# Altium footprint library CeleronLib_Connect.PcbLib: 219 footprints (part 2 of 14)
Each footprint in its own frame and in the unit in brackets; x right, y up, seen from the top. Pads: shape width x height; smd on the part's side, far side on the other; paste and mask are expansions set on the pad; w line width, h text height; cw(c..) or ccw(c..) is an arc to the next point about the centre after c.
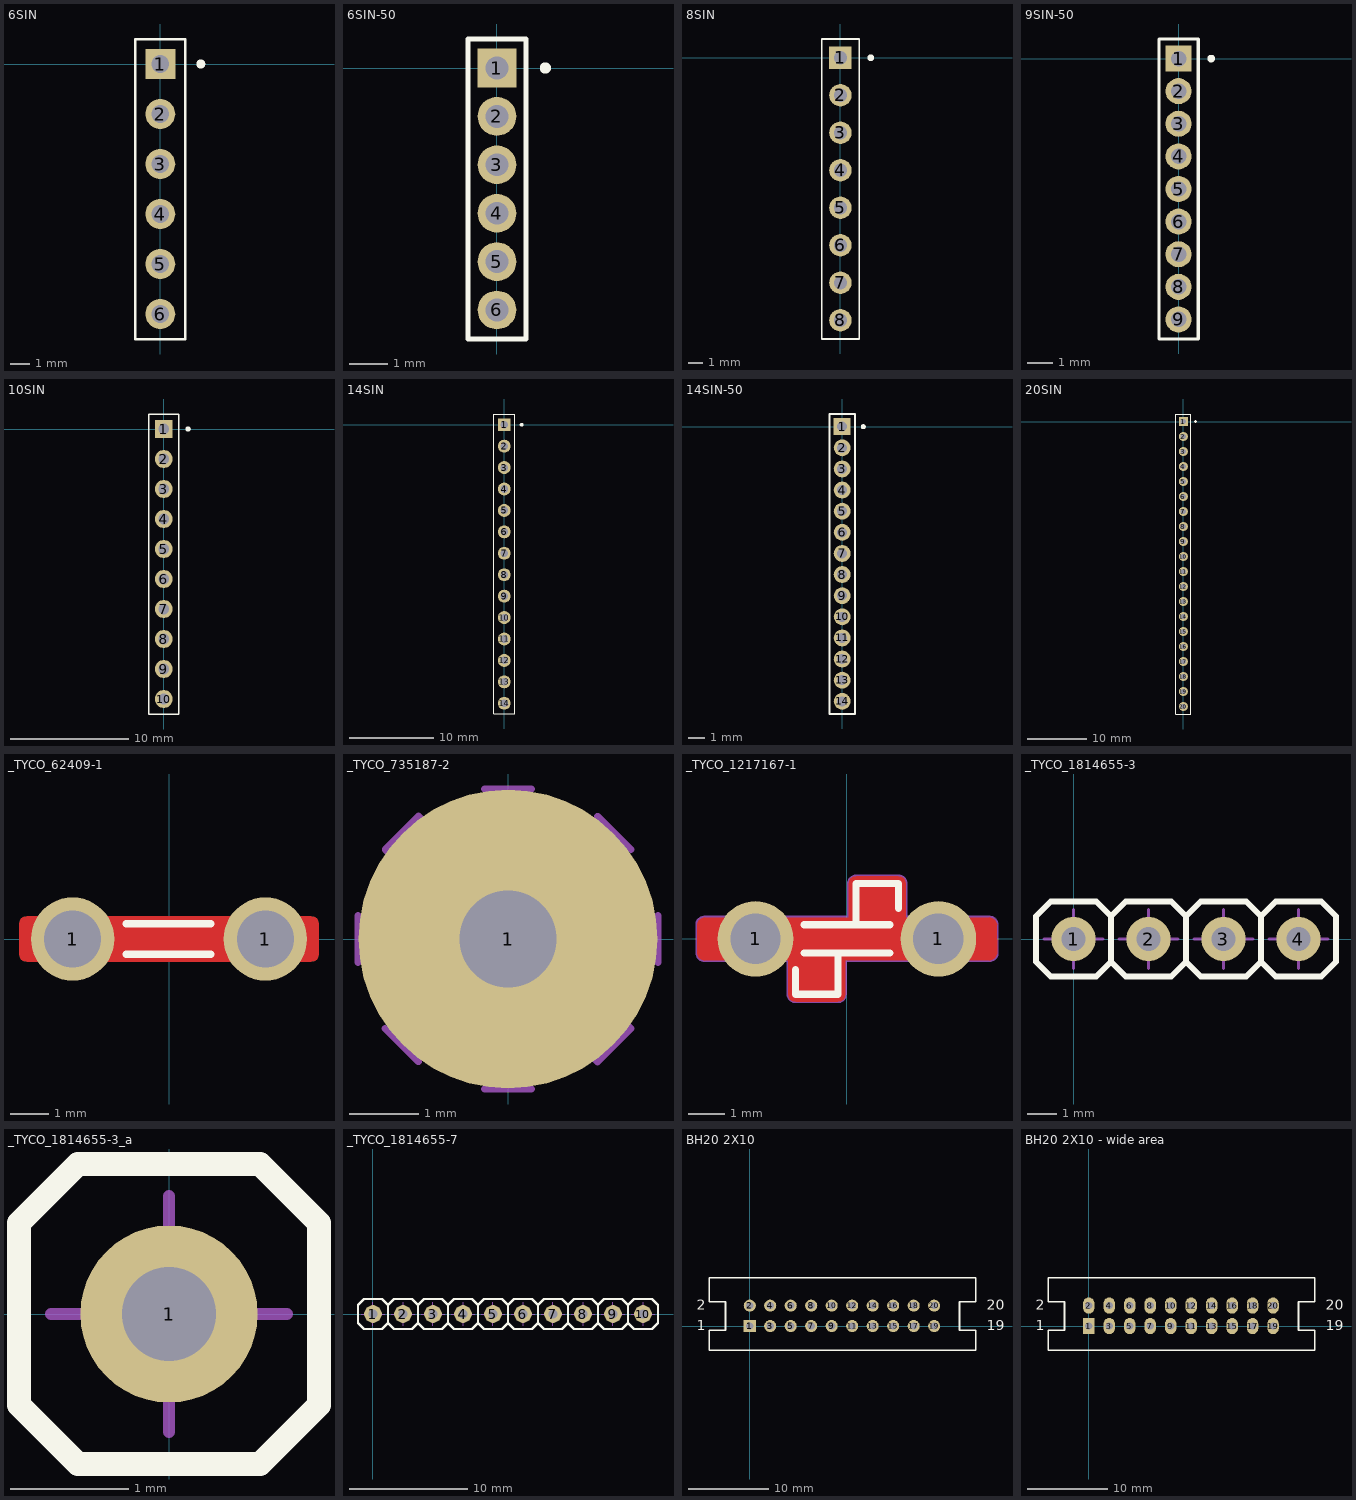
[diagram p1: the footprints below, top view; thin cyan lines are the x and y axes]

## 6SIN [mil]
pads (6):
  rect 60x60 hole 35.43: 1(0,0)
  round 60 hole 35.43: 2(0,-100) 3(0,-200) 4(0,-300) 5(0,-400) 6(0,-500)
Top Overlay:
  circle w10: c81,0 r4
  lines w5: -50,-550 -50,50 50,50 50,-550 -50,-550

## 6SIN-50 [mil]
pads (6):
  rect 40x40 hole 23.6: 1(0,0)
  round 40 hole 23.6: 2(0,-50) 3(0,-100) 4(0,-150) 5(0,-200) 6(0,-250)
Top Overlay:
  circle w6: c50,0 r2.8
  lines w5: -30,-280 -30,30 30,30 30,-280 -30,-280

## 8SIN [mil]
pads (8):
  rect 60x60 hole 35.43: 1(0,0)
  round 60 hole 35.43: 2(0,-100) 3(0,-200) 4(0,-300) 5(0,-400) 6(0,-500) 7(0,-600) 8(0,-700)
Top Overlay:
  circle w10: c81,0 r4
  lines w5: -50,-750 50,-750 50,50 -50,50 -50,-750

## 9SIN-50 [mil]
pads (9):
  rect 40x40 hole 23.6: 1(0,0)
  round 40 hole 23.6: 2(0,-50) 3(0,-100) 4(0,-150) 5(0,-200) 6(0,-250) 7(0,-300) 8(0,-350) 9(0,-400)
Top Overlay:
  circle w6: c50,0 r2.8
  lines w5: -30,-430 30,-430 30,30 -30,30 -30,-430

## 10SIN [mil]
pads (10):
  rect 60x60 hole 35.43: 1(0,0)
  round 60 hole 35.43: 2(0,-100) 3(0,-200) 4(0,-300) 5(0,-400) 6(0,-500) 7(0,-600) 8(0,-700) 9(0,-800) 10(0,-900)
Top Overlay:
  circle w10: c81,0 r4
  lines w5: -50,-950 -50,50 50,50 50,-950 -50,-950

## 14SIN [mil]
pads (14):
  rect 60x60 hole 35.43: 1(0,0)
  round 60 hole 35.43: 2(0,-100) 3(0,-200) 4(0,-300) 5(0,-400) 6(0,-500) 7(0,-600) 8(0,-700) 9(0,-800) 10(0,-900) 11(0,-1000) 12(0,-1100) 13(0,-1200) 14(0,-1300)
Top Overlay:
  circle w10: c81,0 r4
  lines w5: -50,-1350 -50,50 50,50 50,-1350 -50,-1350

## 14SIN-50 [mil]
pads (14):
  rect 40x40 hole 23.6: 1(0,0)
  round 40 hole 23.6: 2(0,-50) 3(0,-100) 4(0,-150) 5(0,-200) 6(0,-250) 7(0,-300) 8(0,-350) 9(0,-400) 10(0,-450) 11(0,-500) 12(0,-550) 13(0,-600) 14(0,-650)
Top Overlay:
  circle w6: c50,0 r2.8
  lines w5: -30,-680 -30,30 30,30 30,-680 -30,-680

## 20SIN [mil]
pads (20):
  rect 60x60 hole 35.43: 1(0,0)
  round 60 hole 35.43: 2(0,-100) 3(0,-200) 4(0,-300) 5(0,-400) 6(0,-500) 7(0,-600) 8(0,-700) 9(0,-800) 10(0,-900) 11(0,-1000) 12(0,-1100) 13(0,-1200) 14(0,-1300) 15(0,-1400) 16(0,-1500) 17(0,-1600) 18(0,-1700) 19(0,-1800) 20(0,-1900)
Top Overlay:
  circle w10: c81,0 r4
  lines w5: -50,-1950 -50,50 50,50 50,-1950 -50,-1950

## _TYCO_62409-1 [mm] "6.3 x 0.8mm FASTON Tab for Printed Circuit Board"
height 12.62
pads (2):
  round 2.2 hole 1.5: 1(-2.54,0) 1(2.54,0)
Top Layer:
  region: -3.95,-0.4 -3.954,0.4 -3.938,0.478 -3.894,0.544 -3.828,0.588 -3.75,0.604 -3.75,0.6 3.75,0.6 3.75,0.604 3.828,0.588 3.894,0.544 3.938,0.478 3.954,0.4 3.95,0.4 3.954,-0.4 3.938,-0.478 3.894,-0.544 3.828,-0.588 3.75,-0.604 3.75,-0.6 -3.75,-0.6 -3.75,-0.604 -3.828,-0.588 -3.894,-0.544 -3.938,-0.478 -3.954,-0.4
Top Overlay:
  lines w0.2: -1.125,-0.4 1.1,-0.4 ; -1.125,0.4 1.1,0.4
Mechanical 8:
  lines w0.1: -3.54,0 -2.54,0 -2.54,-1 ; 1.54,0 2.54,0 2.54,-1
Top Assy:
  lines w0.1: -3.746,-0.4 3.747,-0.4 3.747,0.4 -3.746,0.4 -3.746,-0.4
3D body: height 12.62, standoff -3.17, extent -3.746,-0.4 3.747,0.4

## _TYCO_735187-2 [mm] "2.8mm FASTON Tab For PC Board (1.4mm hole)"
height 8.6
pads (1):
  round 4.3 hole 1.4 mask-0.7: 1(0,0)
Top Assy:
  lines w0.1: -2.159,-0.34 -2.159,0.34 ; -1.767,-1.286 -1.286,-1.767 ; -0.34,-2.159 0.34,-2.159 ; -0.34,2.159 0.34,2.159 ; 1.286,1.767 1.767,1.286 ; 2.159,-0.34 2.159,0.34 ; -1.767,1.286 -1.286,1.767 1.767,-1.286 1.286,-1.767 -1.767,1.286
3D body: height 8.64, standoff -3.81, extent -1.642,-1.642 1.767,1.767

## _TYCO_1217167-1 [mm] "6.3 x 0.8mm FASTON Tab for Printed Circuit Board"
height 16
pads (2):
  round 2.1 hole 1.4: 1(-2.54,0) 1(2.54,0)
Top Layer:
  region: -1.429,-1.745 -1.507,-1.729 -1.573,-1.685 -1.617,-1.619 -1.633,-1.541 -1.629,-1.541 -1.629,-0.598 -3.962,-0.602 -4.04,-0.586 -4.106,-0.542 -4.151,-0.476 -4.166,-0.398 -4.162,-0.398 -4.166,0.39 -4.151,0.468 -4.106,0.534 -4.04,0.578 -3.962,0.594 -3.962,0.59 0.054,0.59 0.05,1.533 0.066,1.611 0.11,1.677 0.176,1.721 0.254,1.737 0.254,1.733 1.429,1.737 1.507,1.721 1.573,1.677 1.617,1.611 1.633,1.533 1.629,1.533 1.629,0.59 3.963,0.594 4.041,0.578 4.107,0.534 4.151,0.468 4.166,0.39 4.163,0.39 4.166,-0.398 4.151,-0.476 4.107,-0.542 4.041,-0.586 3.963,-0.602 3.963,-0.598 -0.054,-0.598 -0.054,-1.541 -0.05,-1.541 -0.065,-1.619 -0.11,-1.685 -0.176,-1.729 -0.254,-1.745 -0.254,-1.741
Top Overlay:
  lines w0.2: -1.429,-0.852 -1.429,-1.537 -0.254,-1.537 -0.254,-0.394 ; -1.196,-0.394 1.197,-0.394 ; -1.196,0.394 1.197,0.394 ; -1.144,0.394 -0.116,0.394 ; 0.096,-0.394 1.145,-0.394 ; 0.254,0.394 0.254,1.537 1.429,1.537 1.429,0.852
Mechanical 8:
  lines w0.1: -3.04,0 -2.54,0 ; -2.54,-0.5 -2.54,0 ; -2.54,0.5 -2.54,0 ; -2.04,0 -2.54,0 ; -0.5,0 0,0 ; 0,-0.5 0,0 ; 0,0.5 0,0 ; 0.5,0 0,0 ; 2.04,0 2.54,0 ; 2.54,-0.5 2.54,0 ; 2.54,0.5 2.54,0 ; 3.04,0 2.54,0 ; -4.162,-0.394 ccw(c-3.962,-0.394) -3.962,-0.594 -1.629,-0.594 -1.629,-1.537 ccw(c-1.429,-1.537) -1.429,-1.737 -0.254,-1.737 ccw(c-0.254,-1.537) -0.054,-1.537 -0.054,-0.594 3.963,-0.594 ccw(c3.963,-0.394) 4.163,-0.394 4.163,0.394 ccw(c3.963,0.394) 3.963,0.594 1.629,0.594 1.629,1.537 ccw(c1.429,1.537) 1.429,1.737 0.254,1.737 ccw(c0.254,1.537) 0.054,1.537 0.054,0.594 -3.962,0.594 ccw(c-3.962,0.394) -4.162,0.394 -4.162,-0.394
Top Assy:
  lines w0.1: -1.429,-0.394 -1.429,-1.537 -0.254,-1.537 -0.254,-0.394 ; 0.254,0.394 0.254,1.537 1.429,1.537 1.429,0.394 ; -3.962,-0.394 -3.962,0.394 3.963,0.394 3.963,-0.394 -3.962,-0.394
3D body: height 16.26, standoff -3.56, extent -3.962,-1.537 3.963,1.537

## _TYCO_1814655-3 [mm] "4 Positions, Pitch 2.54mm, Width 2.54mm, Heigh 4.4mm, SIP Straight Socket"
height 4.4
pads (4):
  round 1.5 hole 0.8: 1(0,0) 2(2.54,0) 3(5.08,0) 4(7.62,0)
Top Overlay:
  lines w0.2: 1.27,-0.77 1.27,0.77 ; 1.27,-0.77 1.77,-1.27 3.31,-1.27 3.81,-0.77 ; 1.27,-0.77 0.77,-1.27 -0.77,-1.27 -1.27,-0.77 -1.27,0.77 -0.77,1.27 0.77,1.27 1.27,0.77 ; 1.27,0.77 1.77,1.27 3.31,1.27 3.81,0.77 ; 3.81,-0.77 3.81,0.77 ; 3.81,-0.77 4.31,-1.27 5.85,-1.27 6.35,-0.77 ; 3.81,0.77 4.31,1.27 5.85,1.27 6.35,0.77 ; 6.35,-0.77 6.35,0.77 ; 6.35,-0.77 6.85,-1.27 8.39,-1.27 8.89,-0.77 8.89,0.77 8.39,1.27 6.85,1.27 6.35,0.77
Mechanical 8:
  lines w0.1: -1,0 0,0 ; 0,-1 0,0 ; 0,1 0,0 ; 1,0 0,0 ; 1.54,0 2.54,0 ; 2.54,-1 2.54,0 ; 2.54,1 2.54,0 ; 3.54,0 2.54,0 ; 4.08,0 5.08,0 ; 5.08,-1 5.08,0 ; 5.08,1 5.08,0 ; 6.08,0 5.08,0 ; 6.62,0 7.62,0 ; 7.62,-1 7.62,0 ; 7.62,1 7.62,0 ; 8.62,0 7.62,0
Top Assy:
  lines w0.1: 1.27,-0.77 1.27,0.77 ; 1.27,-0.77 1.77,-1.27 3.31,-1.27 3.81,-0.77 ; 1.27,-0.77 0.77,-1.27 -0.77,-1.27 -1.27,-0.77 -1.27,0.77 -0.77,1.27 0.77,1.27 1.27,0.77 ; 1.27,0.77 1.77,1.27 3.31,1.27 3.81,0.77 ; 3.81,-0.77 3.81,0.77 ; 3.81,-0.77 4.31,-1.27 5.85,-1.27 6.35,-0.77 ; 3.81,0.77 4.31,1.27 5.85,1.27 6.35,0.77 ; 6.35,-0.77 6.35,0.77 ; 6.35,-0.77 6.85,-1.27 8.39,-1.27 8.89,-0.77 8.89,0.77 8.39,1.27 6.85,1.27 6.35,0.77
3D body: height 4.4, standoff -2.9, extent -1.27,-1.27 8.89,1.27

## _TYCO_1814655-3_a [mm] "1 of 4 Positions, Pitch 2.54mm, Width 2.54mm, Heigh 4.4mm, SIP Straight Socket"
height 4.4
pads (1):
  round 1.5 hole 0.8: 1(0,0)
Top Overlay:
  lines w0.2: -1.27,-0.77 -1.27,0.77 -0.77,1.27 0.77,1.27 1.27,0.77 1.27,-0.77 0.77,-1.27 -0.77,-1.27 -1.27,-0.77
Mechanical 8:
  lines w0.1: -1,0 0,0 ; 0,-1 0,0 ; 0,1 0,0 ; 1,0 0,0
Top Assy:
  lines w0.1: -1.27,-0.77 -1.27,0.77 -0.77,1.27 0.77,1.27 1.27,0.77 1.27,-0.77 0.77,-1.27 -0.77,-1.27 -1.27,-0.77
3D body: height 4.4, standoff -2.9, extent -1.27,-1.27 1.27,1.27

## _TYCO_1814655-7 [mm] "10 Positions, Pitch 2.54mm, Width 2.54mm, Heigh 4.4mm, SIP Straight Socket"
height 4.4
pads (10):
  round 1.5 hole 0.8: 1(0,0) 2(2.54,0) 3(5.08,0) 4(7.62,0) 5(10.16,0) 6(12.7,0) 7(15.24,0) 8(17.78,0) 9(20.32,0) 10(22.86,0)
Top Overlay:
  lines w0.2: 1.27,-0.77 0.77,-1.27 -0.77,-1.27 -1.27,-0.77 -1.27,0.77 -0.77,1.27 0.77,1.27 1.27,0.77 ; 1.27,-0.77 1.77,-1.27 3.31,-1.27 3.81,-0.77 ; 1.27,-0.77 1.27,0.77 ; 1.27,0.77 1.77,1.27 3.31,1.27 3.81,0.77 ; 3.81,-0.77 4.31,-1.27 5.85,-1.27 6.35,-0.77 ; 3.81,-0.77 3.81,0.77 ; 3.81,0.77 4.31,1.27 5.85,1.27 6.35,0.77 ; 6.35,-0.77 6.85,-1.27 8.39,-1.27 8.89,-0.77 ; 6.35,-0.77 6.35,0.77 ; 6.35,0.77 6.85,1.27 8.39,1.27 8.89,0.77 ; 8.89,-0.77 9.39,-1.27 10.93,-1.27 11.43,-0.77 ; 8.89,-0.77 8.89,0.77 ; 8.89,0.77 9.39,1.27 10.93,1.27 11.43,0.77 ; 11.43,-0.77 11.93,-1.27 13.47,-1.27 13.97,-0.77 ; 11.43,-0.77 11.43,0.77 ; 11.43,0.77 11.93,1.27 13.47,1.27 13.97,0.77 ; 13.97,-0.77 14.47,-1.27 16.01,-1.27 16.51,-0.77 ; 13.97,-0.77 13.97,0.77 ; 13.97,0.77 14.47,1.27 16.01,1.27 16.51,0.77 ; 16.51,-0.77 17.01,-1.27 18.55,-1.27 19.05,-0.77 ; 16.51,-0.77 16.51,0.77 ; 16.51,0.77 17.01,1.27 18.55,1.27 19.05,0.77 ; 19.05,-0.77 19.55,-1.27 21.09,-1.27 21.59,-0.77 ; 19.05,-0.77 19.05,0.77 ; 19.05,0.77 19.55,1.27 21.09,1.27 21.59,0.77 ; 21.59,-0.77 22.09,-1.27 23.63,-1.27 24.13,-0.77 24.13,0.77 23.63,1.27 22.09,1.27 21.59,0.77 ; 21.59,-0.77 21.59,0.77
Mechanical 8:
  lines w0.1: -1,0 0,0 ; 0,-1 0,0 ; 0,1 0,0 ; 1,0 0,0 ; 1.54,0 2.54,0 ; 2.54,-1 2.54,0 ; 2.54,1 2.54,0 ; 3.54,0 2.54,0 ; 4.08,0 5.08,0 ; 5.08,-1 5.08,0 ; 5.08,1 5.08,0 ; 6.08,0 5.08,0 ; 6.62,0 7.62,0 ; 7.62,-1 7.62,0 ; 7.62,1 7.62,0 ; 8.62,0 7.62,0 ; 9.16,0 10.16,0 ; 10.16,-1 10.16,0 ; 10.16,1 10.16,0 ; 11.16,0 10.16,0 ; 11.7,0 12.7,0 ; 12.7,-1 12.7,0 ; 12.7,1 12.7,0 ; 13.7,0 12.7,0 ; 14.24,0 15.24,0 ; 15.24,-1 15.24,0 ; 15.24,1 15.24,0 ; 16.24,0 15.24,0 ; 16.78,0 17.78,0 ; 17.78,-1 17.78,0 ; 17.78,1 17.78,0 ; 18.78,0 17.78,0 ; 19.32,0 20.32,0 ; 20.32,-1 20.32,0 ; 20.32,1 20.32,0 ; 21.32,0 20.32,0 ; 21.86,0 22.86,0 ; 22.86,-1 22.86,0 ; 22.86,1 22.86,0 ; 23.86,0 22.86,0
Top Assy:
  lines w0.1: 1.27,-0.77 0.77,-1.27 -0.77,-1.27 -1.27,-0.77 -1.27,0.77 -0.77,1.27 0.77,1.27 1.27,0.77 ; 1.27,-0.77 1.77,-1.27 3.31,-1.27 3.81,-0.77 ; 1.27,-0.77 1.27,0.77 ; 1.27,0.77 1.77,1.27 3.31,1.27 3.81,0.77 ; 3.81,-0.77 4.31,-1.27 5.85,-1.27 6.35,-0.77 ; 3.81,-0.77 3.81,0.77 ; 3.81,0.77 4.31,1.27 5.85,1.27 6.35,0.77 ; 6.35,-0.77 6.85,-1.27 8.39,-1.27 8.89,-0.77 ; 6.35,-0.77 6.35,0.77 ; 6.35,0.77 6.85,1.27 8.39,1.27 8.89,0.77 ; 8.89,-0.77 9.39,-1.27 10.93,-1.27 11.43,-0.77 ; 8.89,-0.77 8.89,0.77 ; 8.89,0.77 9.39,1.27 10.93,1.27 11.43,0.77 ; 11.43,-0.77 11.93,-1.27 13.47,-1.27 13.97,-0.77 ; 11.43,-0.77 11.43,0.77 ; 11.43,0.77 11.93,1.27 13.47,1.27 13.97,0.77 ; 13.97,-0.77 14.47,-1.27 16.01,-1.27 16.51,-0.77 ; 13.97,-0.77 13.97,0.77 ; 13.97,0.77 14.47,1.27 16.01,1.27 16.51,0.77 ; 16.51,-0.77 17.01,-1.27 18.55,-1.27 19.05,-0.77 ; 16.51,-0.77 16.51,0.77 ; 16.51,0.77 17.01,1.27 18.55,1.27 19.05,0.77 ; 19.05,-0.77 19.55,-1.27 21.09,-1.27 21.59,-0.77 ; 19.05,-0.77 19.05,0.77 ; 19.05,0.77 19.55,1.27 21.09,1.27 21.59,0.77 ; 21.59,-0.77 22.09,-1.27 23.63,-1.27 24.13,-0.77 24.13,0.77 23.63,1.27 22.09,1.27 21.59,0.77 ; 21.59,-0.77 21.59,0.77
3D body: height 4.4, standoff -2.9, extent -1.27,-1.27 24.13,1.27

## BH20 2X10 [mm] "Connector; Header; 10x2 Position"
pads (20):
  rect 1.5x1.5 hole 0.9: 1(0,0)
  round 1.5 hole 0.9: 2(0,2.54) 3(2.54,0) 4(2.54,2.54) 5(5.08,0) 6(5.08,2.54) 7(7.62,0) 8(7.62,2.54) 9(10.16,0) 10(10.16,2.54) 11(12.7,0) 12(12.7,2.54) 13(15.24,0) 14(15.24,2.54) 15(17.78,0) 16(17.78,2.54) 17(20.32,0) 18(20.32,2.54) 19(22.86,0) 20(22.86,2.54)
Top Overlay:
  lines w0.2: -5,-3 -5,-0.5 -3,-0.5 -3,3 -5,3 -5,6 -1.555,6 28,6 28,3 26,3 26,-0.5 28,-0.5 28,-3 -1.095,-3 -5,-3
  text "20" at 29.384,2.032 h1.27
  text "19" at 29.384,-0.508 h1.27
  text "1" at -6.54,-0.508 h1.27
  text "2" at -6.54,2.032 h1.27

## BH20 2X10 - wide area [mm] "Connector; Header; 10x2 wide area"
pads (20):
  rect 1.4x2 hole 0.9: 1(0,0)
  oval 1.4x2 hole 0.9: 2(0,2.54) 3(2.54,0) 4(2.54,2.54) 5(5.08,0) 6(5.08,2.54) 7(7.62,0) 8(7.62,2.54) 9(10.16,0) 10(10.16,2.54) 11(12.7,0) 12(12.7,2.54) 13(15.24,0) 14(15.24,2.54) 15(17.78,0) 16(17.78,2.54) 17(20.32,0) 18(20.32,2.54) 19(22.86,0) 20(22.86,2.54)
Top Overlay:
  lines w0.2: -5,-3 -5,-0.5 -3,-0.5 -3,3 -5,3 -5,6 -1.555,6 28,6 28,3 26,3 26,-0.5 28,-0.5 28,-3 -1.095,-3 -5,-3
  text "20" at 29.384,2.032 h1.27
  text "19" at 29.384,-0.508 h1.27
  text "1" at -6.54,-0.508 h1.27
  text "2" at -6.54,2.032 h1.27